# Altium integrated library UAVX_Connector.IntLib: 1 symbol
Pins are listed as number, name and electrical type; pins without a type are passive.

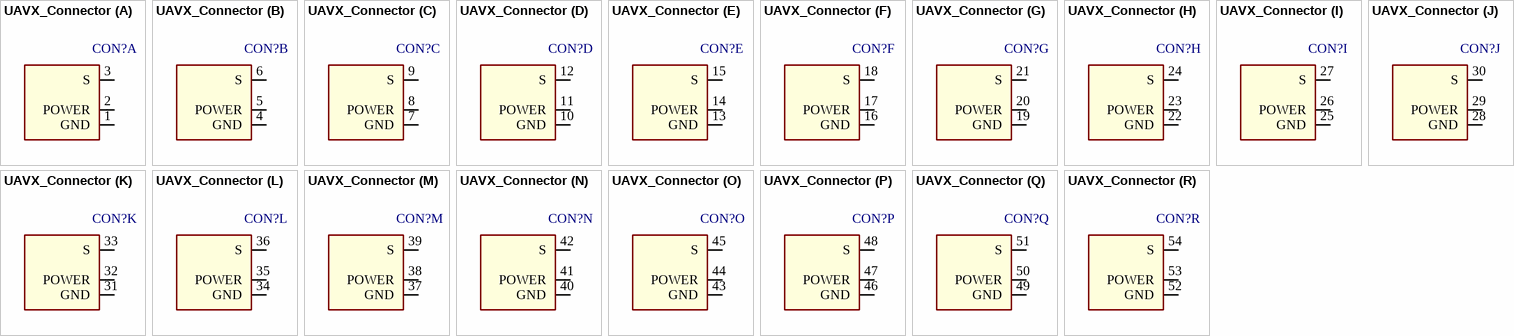
[diagram p0: symbol UAVX_Connector]

## UAVX_Connector
designator CON?  (value not drawn)
PDF: *; ID: *; PRICE: *; BUY_LINK: *
footprint UAVX_Connector
part A pins: 1 GND, 2 POWER, 3 S
part B pins: 4 GND, 5 POWER, 6 S
part C pins: 7 GND, 8 POWER, 9 S
part D pins: 10 GND, 11 POWER, 12 S
part E pins: 13 GND, 14 POWER, 15 S
part F pins: 16 GND, 17 POWER, 18 S
part G pins: 19 GND, 20 POWER, 21 S
part H pins: 22 GND, 23 POWER, 24 S
part I pins: 25 GND, 26 POWER, 27 S
part J pins: 28 GND, 29 POWER, 30 S
part K pins: 31 GND, 32 POWER, 33 S
part L pins: 34 GND, 35 POWER, 36 S
part M pins: 37 GND, 38 POWER, 39 S
part N pins: 40 GND, 41 POWER, 42 S
part O pins: 43 GND, 44 POWER, 45 S
part P pins: 46 GND, 47 POWER, 48 S
part Q pins: 49 GND, 50 POWER, 51 S
part R pins: 52 GND, 53 POWER, 54 S